# EAGLE library part RES4I (library Resistors)
Resistor Array
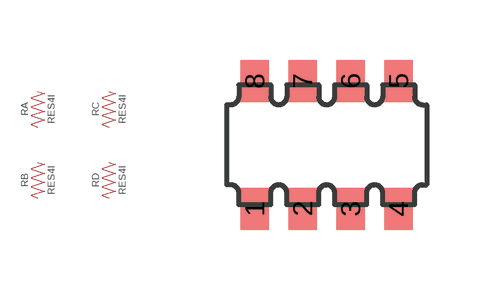
[diagram p0: symbol with the pads of 2012A4; footprint 2012A4]

Designator prefix R; gates A=RES B=RES C=RES D=RES

## RES4I2012  [2012A4]
1  A:1  pas
2  B:1  pas
3  C:1  pas
4  D:1  pas
5  D:2  pas
6  C:2  pas
7  B:2  pas
8  A:2  pas

## Footprint 2012A4 (pad centres in mm)
smd 0.71 x 1.05: 1 -1.8,-1.6; 2 -0.6,-1.6; 3 0.6,-1.6; 4 1.8,-1.6; 5 1.8,1.6; 6 0.6,1.6; 7 -0.6,1.6; 8 -1.8,1.6